# Altium footprint library ap-pam.PcbLib: 16 footprints
Each footprint in its own frame and in the unit in brackets; x right, y up, seen from the top. Pads: shape width x height; smd on the part's side, far side on the other; paste and mask are expansions set on the pad; w line width, h text height; cw(c..) or ccw(c..) is an arc to the next point about the centre after c.
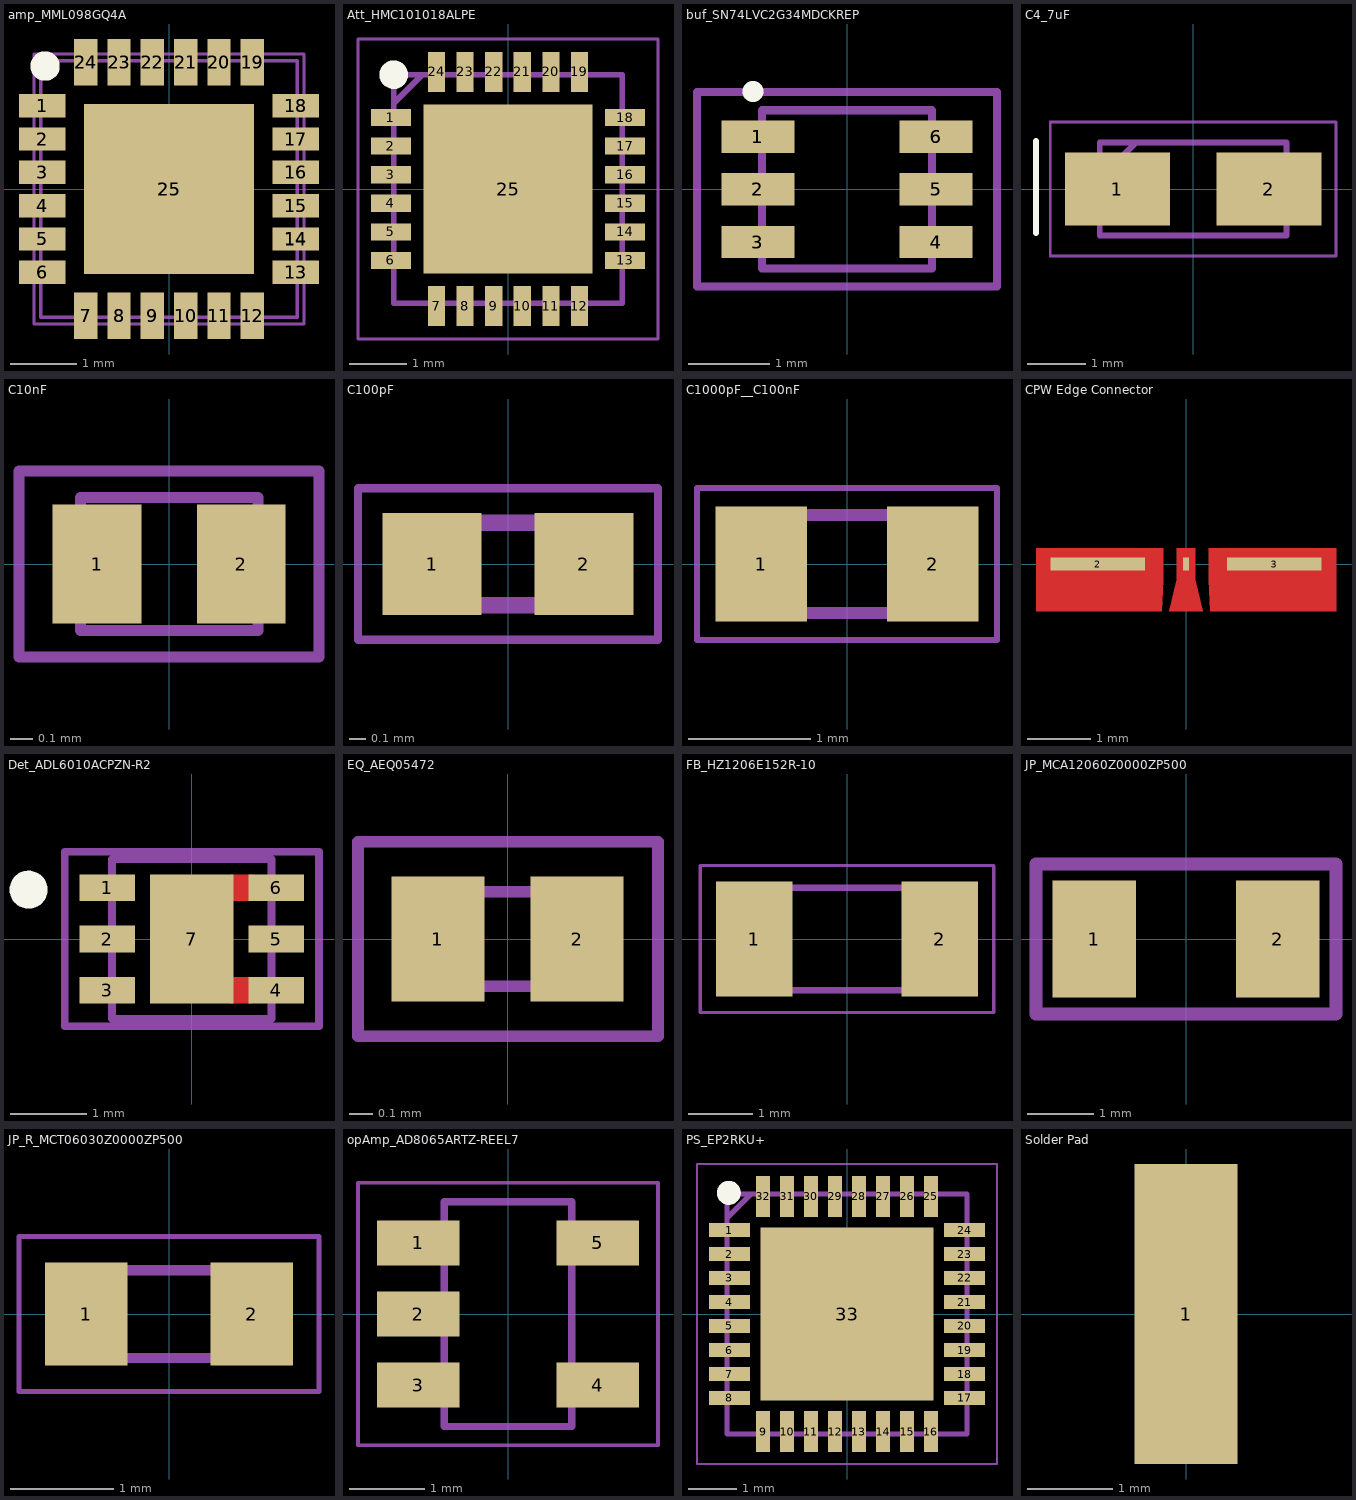
[diagram p0: the footprints below, top view; thin cyan lines are the x and y axes]

## amp_MML098GQ4A [mm]
pads (50):
  rect 0.7x0.35 smd: 1(-1.9,1.25) 2(-1.9,0.75) 3(-1.9,0.25) 4(-1.9,-0.25) 5(-1.9,-0.75) 6(-1.9,-1.25) 13(1.9,-1.25) 14(1.9,-0.75) 15(1.9,-0.25) 16(1.9,0.25) 17(1.9,0.75) 18(1.9,1.25)
  rect 0.7x0.35 on Top Paste: 1(-1.9,1.25) 2(-1.9,0.75) 3(-1.9,0.25) 4(-1.9,-0.25) 5(-1.9,-0.75) 6(-1.9,-1.25) 13(1.9,-1.25) 14(1.9,-0.75) 15(1.9,-0.25) 16(1.9,0.25) 17(1.9,0.75) 18(1.9,1.25)
  rect 0.35x0.7 smd: 7(-1.25,-1.9) 8(-0.75,-1.9) 9(-0.25,-1.9) 10(0.25,-1.9) 11(0.75,-1.9) 12(1.25,-1.9) 19(1.25,1.9) 20(0.75,1.9) 21(0.25,1.9) 22(-0.25,1.9) 23(-0.75,1.9) 24(-1.25,1.9)
  rect 0.35x0.7 on Top Paste: 7(-1.25,-1.9) 8(-0.75,-1.9) 9(-0.25,-1.9) 10(0.25,-1.9) 11(0.75,-1.9) 12(1.25,-1.9) 19(1.25,1.9) 20(0.75,1.9) 21(0.25,1.9) 22(-0.25,1.9) 23(-0.75,1.9) 24(-1.25,1.9)
  rect 2.55x2.55 smd: 25(0,0)
  rect 2.5x2.5 on Top Paste: 25(0,0)
Top Overlay:
  circle w0.24: c-1.859,1.844 r0.1
Top Assembly:
  lines w0.05: -2.025,-2.025 2.025,-2.025 2.025,2.025 -2.025,2.025 -2.025,-2.025
  lines w0.055: -1.925,-1.925 1.925,-1.925 1.925,1.925 -1.925,1.925 -1.925,-1.925
  text ".Designator" at -4,-0.283 h0.8
3D body "MML098Q4A.stp": height 1.05, standoff 0, extent -2.05,-2.05 2.05,2.05

## Att_HMC101018ALPE [mm]
pads (25):
  rect 0.7x0.3 smd: 1(-2.05,1.25) 2(-2.05,0.75) 3(-2.05,0.25) 4(-2.05,-0.25) 5(-2.05,-0.75) 6(-2.05,-1.25) 13(2.05,-1.25) 14(2.05,-0.75) 15(2.05,-0.25) 16(2.05,0.25) 17(2.05,0.75) 18(2.05,1.25)
  rect 0.3x0.7 smd: 7(-1.25,-2.05) 8(-0.75,-2.05) 9(-0.25,-2.05) 10(0.25,-2.05) 11(0.75,-2.05) 12(1.25,-2.05) 19(1.25,2.05) 20(0.75,2.05) 21(0.25,2.05) 22(-0.25,2.05) 23(-0.75,2.05) 24(-1.25,2.05)
  rect 2.95x2.95 smd: 25(0,0)
Top Overlay:
  circle w0.25: c-2,2 r0.125
Top Assembly:
  lines w0.05: -2.625,-2.625 2.625,-2.625 2.625,2.625 -2.625,2.625 -2.625,-2.625
  lines w0.1: -2,1.5 -1.5,2 ; -2,-2 2,-2 2,2 -2,2 -2,-2
  text ".Designator" at -3.997,-0.28 h0.8
3D body "HMC1018ALP4E.stp": height 1, standoff 0, extent -2.05,-2.05 2.05,2.05

## buf_SN74LVC2G34MDCKREP [mm]
pads (12):
  rect 0.9x0.4 smd: 1(-1.1,0.65) 2(-1.1,0) 3(-1.1,-0.65) 4(1.1,-0.65) 5(1.1,0) 6(1.1,0.65)
  rect 0.9x0.4 on Top Paste: 1(-1.1,0.65) 2(-1.1,0) 3(-1.1,-0.65) 4(1.1,-0.65) 5(1.1,0) 6(1.1,0.65)
Top Overlay:
  circle w0.254: c-1.161,1.205 r0.003
Top Assembly:
  lines w0.1: -1.85,-1.2 -1.85,1.2 1.85,1.2 1.85,-1.2 -1.85,-1.2 ; -1.05,-0.975 -1.05,0.975 1.05,0.975 1.05,0.487 1.05,-0.487 1.05,-0.975 -1.05,-0.975
  text ".Designator" at -3.384,-0.238 h0.7
3D body "B_SN74LVC2G34MDCKREP .stp": height 1, standoff 0, extent -1.05,-1 1.05,1

## C4_7uF [mm]
pads (2):
  rect 1.8x1.25 smd: 1(-1.3,0) 2(1.3,0)
Top Overlay:
  lines w0.1: -2.694,-0.755 -2.694,0.824
Top Assembly:
  lines w0.05: -2.45,-1.15 2.45,-1.15 2.45,1.15 -2.45,1.15 -2.45,-1.15
  lines w0.1: -1.6,0.175 -0.975,0.8 ; -1.6,-0.8 1.6,-0.8 1.6,0.8 -1.6,0.8 -1.6,-0.8
  text ".Designator" at -3.499,-0.233 h0.7
3D body "C4_7uF.stp": height 1.84, standoff 0.01, extent -1.702,-0.948 1.702,0.95

## C10nF [mm]
pads (2):
  rect 0.4x0.538 smd: 1(-0.325,0) 2(0.325,0)
Top Assembly:
  lines w0.05: -0.677,-0.42 0.676,-0.42 0.676,0.42 -0.677,0.42 -0.677,-0.42 ; -0.4,-0.3 0.4,-0.3 0.4,0.3 -0.4,0.3 -0.4,-0.3
  text ".Designator" at -1.998,-0.133 h0.4
3D body "C10nF.stp": height 0.14, standoff 0, extent -0.4,-0.3 0.4,0.3

## C100pF [mm]
pads (2):
  rect 0.6x0.62 smd: 1(-0.46,0) 2(0.46,0)
Top Assembly:
  lines w0.05: -0.91,-0.46 -0.91,0.46 0.91,0.46 0.91,-0.46 -0.91,-0.46
  lines w0.1: -0.5,-0.25 -0.5,0.25 0.5,0.25 0.5,-0.25 -0.5,-0.25
  text ".Designator" at -1.999,-0.133 h0.4
3D body "C100pF.stp": height 0.55, standoff 0, extent -0.5,-0.25 0.5,0.25

## C1000pF__C100nF [mm]
pads (2):
  rect 0.75x0.94 smd: 1(-0.7,0) 2(0.7,0)
Top Assembly:
  lines w0.05: -1.225,-0.62 1.225,-0.62 1.225,0.62 -1.225,0.62 -1.225,-0.62
  lines w0.1: -0.8,-0.4 0.8,-0.4 0.8,0.4 -0.8,0.4 -0.8,-0.4
  text ".Designator" at -2.499,-0.167 h0.5
3D body "C1000pF.stp": height 0.9, standoff 0, extent -0.8,-0.4 0.8,0.4

## CPW Edge Connector [mm]
pads (3):
  rect 0.1x0.2 smd paste-2539.97: 1(0,0)
  rect 1.5x0.2 smd paste-2539.97: 2(-1.4,0) 3(1.4,0)
Top Layer:
  region: -2.383,0.25 -0.361,0.25 -0.361,-0.25 -0.383,-0.75 -2.383,-0.75
  region: 2.383,0.25 0.361,0.25 0.361,-0.25 0.383,-0.75 2.383,-0.75
  region: -0.15,0.25 0.15,0.25 0.15,-0.25 0.269,-0.75 -0.269,-0.75 -0.15,-0.25

## Det_ADL6010ACPZN-R2 [mm]
pads (7):
  rect 0.73x0.35 smd paste+0 mask+0: 1(-1.115,0.675) 2(-1.115,0) 3(-1.115,-0.675) 4(1.115,-0.675) 5(1.115,0) 6(1.115,0.675)
  rect 1.1x1.7 smd paste+0 mask+0: 7(0,0)
Top Layer:
  rectangle: 0.502,-0.85 0.793,-0.5
  rectangle: 0.516,0.5 0.814,0.85
Top Overlay:
  circle w0.25: c-2.15,0.65 r0.125
Top Assembly:
  lines w0.1: -1.675,-1.15 -1.675,1.15 1.675,1.15 1.675,-1.15 -1.675,-1.15 ; -1.05,-1.05 -1.05,1.05 1.05,1.05 1.05,-1.05 -1.05,-1.05
  text ".Designator" at -2.19,-0.227 h1
3D body "IC_Analog_Devices_ADL6010ACPZN-R2_eec.STEP": height 0.25, standoff 0, extent -1.675,-1.15 1.675,1.15

## EQ_AEQ05472 [mm]
pads (2):
  rect 0.4x0.538 smd: 1(-0.3,0) 2(0.3,0)
Top Assembly:
  lines w0.05: -0.645,-0.42 0.649,-0.42 0.649,0.42 -0.645,0.42 -0.645,-0.42 ; -0.356,-0.203 -0.356,0.203 0.356,0.203 0.356,-0.203 -0.356,-0.203
  text ".Designator" at -1.998,-0.133 h0.4
3D body "C10nF.stp": height 0.14, standoff 0, extent -0.4,-0.3 0.4,0.3

## FB_HZ1206E152R-10 [mm]
pads (2):
  rect 1.2x1.8 smd: 1(-1.45,0) 2(1.45,0)
Top Assembly:
  lines w0.05: -2.3,-1.15 2.3,-1.15 2.3,1.15 -2.3,1.15 -2.3,-1.15
  lines w0.1: -1.6,-0.8 1.6,-0.8 1.6,0.8 -1.6,0.8 -1.6,-0.8
  text ".Designator" at -2.278,-0.153 h1
3D body "FB_HZ1206E152R-10.stp": height 1.3, standoff 0, extent -1.6,-0.803 1.6,0.797

## JP_MCA12060Z0000ZP500 [mm]
pads (2):
  rect 1.256x1.758 smd paste+0 mask+0: 1(-1.376,0) 2(1.376,0)
Top Assembly:
  lines w0.2: -2.254,-1.129 2.254,-1.129 2.254,1.129 -2.254,1.129 -2.254,-1.129
  text ".Designator" at -2.279,-0.156 h1
3D body "Res_Vishay_MCA12060D1541BP100_eec.STEP": height 0.25, standoff 0, extent -2.255,-1.129 2.253,1.129

## JP_R_MCT06030Z0000ZP500 [mm]
pads (2):
  rect 0.8x1 smd: 1(-0.8,0) 2(0.8,0)
Top Assembly:
  lines w0.05: -1.451,-0.75 -1.451,0.75 1.449,0.75 1.449,-0.75 -1.451,-0.75
  lines w0.1: -0.775,-0.426 -0.775,0.424 0.775,0.424 0.775,-0.426 -0.775,-0.426
  text ".Designator" at -2,-0.133 h0.4
3D body "JP_small_MCT06030Z0000ZP500.stp": height 0.46, standoff 0.01, extent -0.772,-0.426 0.778,0.424

## opAmp_AD8065ARTZ-REEL7 [mm] "SOT-23, 5-Leads, Body 2.9x1.6mm, Pitch 0.95mm, IPC Medium Density"
height 1.45
pads (5):
  rect 1.1x0.6 smd: 1(-1.2,0.95) 2(-1.2,0) 3(-1.2,-0.95) 4(1.2,-0.95) 5(1.2,0.95)
Top Assembly:
  lines w0.05: -2,-1.75 -2,1.75 2,1.75 2,-1.75 -2,-1.75
  lines w0.1: -0.85,-1.5 -0.85,1.5 0.85,1.5 0.85,-1.5 -0.85,-1.5
  text ".Designator" at -2.284,-0.155 h1
3D body: height 1.45, standoff 0.05, extent -0.85,-1.5 0.85,1.5

## PS_EP2RKU+ [mm]
pads (33):
  rect 0.85x0.3 smd: 1(-2.45,1.75) 2(-2.45,1.25) 3(-2.45,0.75) 4(-2.45,0.25) 5(-2.45,-0.25) 6(-2.45,-0.75) 7(-2.45,-1.25) 8(-2.45,-1.75) 17(2.45,-1.75) 18(2.45,-1.25) 19(2.45,-0.75) 20(2.45,-0.25) 21(2.45,0.25) 22(2.45,0.75) 23(2.45,1.25) 24(2.45,1.75)
  rect 0.3x0.85 smd: 9(-1.75,-2.45) 10(-1.25,-2.45) 11(-0.75,-2.45) 12(-0.25,-2.45) 13(0.25,-2.45) 14(0.75,-2.45) 15(1.25,-2.45) 16(1.75,-2.45) 25(1.75,2.45) 26(1.25,2.45) 27(0.75,2.45) 28(0.25,2.45) 29(-0.25,2.45) 30(-0.75,2.45) 31(-1.25,2.45) 32(-1.75,2.45)
  rect 3.6x3.6 smd: 33(0,0)
Top Overlay:
  circle w0.25: c-2.463,2.524 r0.125
Top Assembly:
  lines w0.05: -3.125,-3.125 3.125,-3.125 3.125,3.125 -3.125,3.125 -3.125,-3.125
  lines w0.1: -2.5,2 -2,2.5 ; -2.5,-2.5 2.5,-2.5 2.5,2.5 -2.5,2.5 -2.5,-2.5
  text ".Designator" at -4.001,-0.277 h0.8
3D body "PS_EP2RKU+.stp": height 1, standoff 0, extent -2.55,-2.55 2.55,2.55

## Solder Pad [mm]
pads (1):
  rect 1.2x3.5 smd paste-2539.97: 1(0,0)
Top Assembly:
  text ".Designator" at 0.233,-3.499 h0.7